# Altium footprint library yusend_power.PCBLIB: 87 footprints (part 1 of 6)
Each footprint in its own frame and in the unit in brackets; x right, y up, seen from the top. Pads: shape width x height; smd on the part's side, far side on the other; paste and mask are expansions set on the pad; w line width, h text height; cw(c..) or ccw(c..) is an arc to the next point about the centre after c.
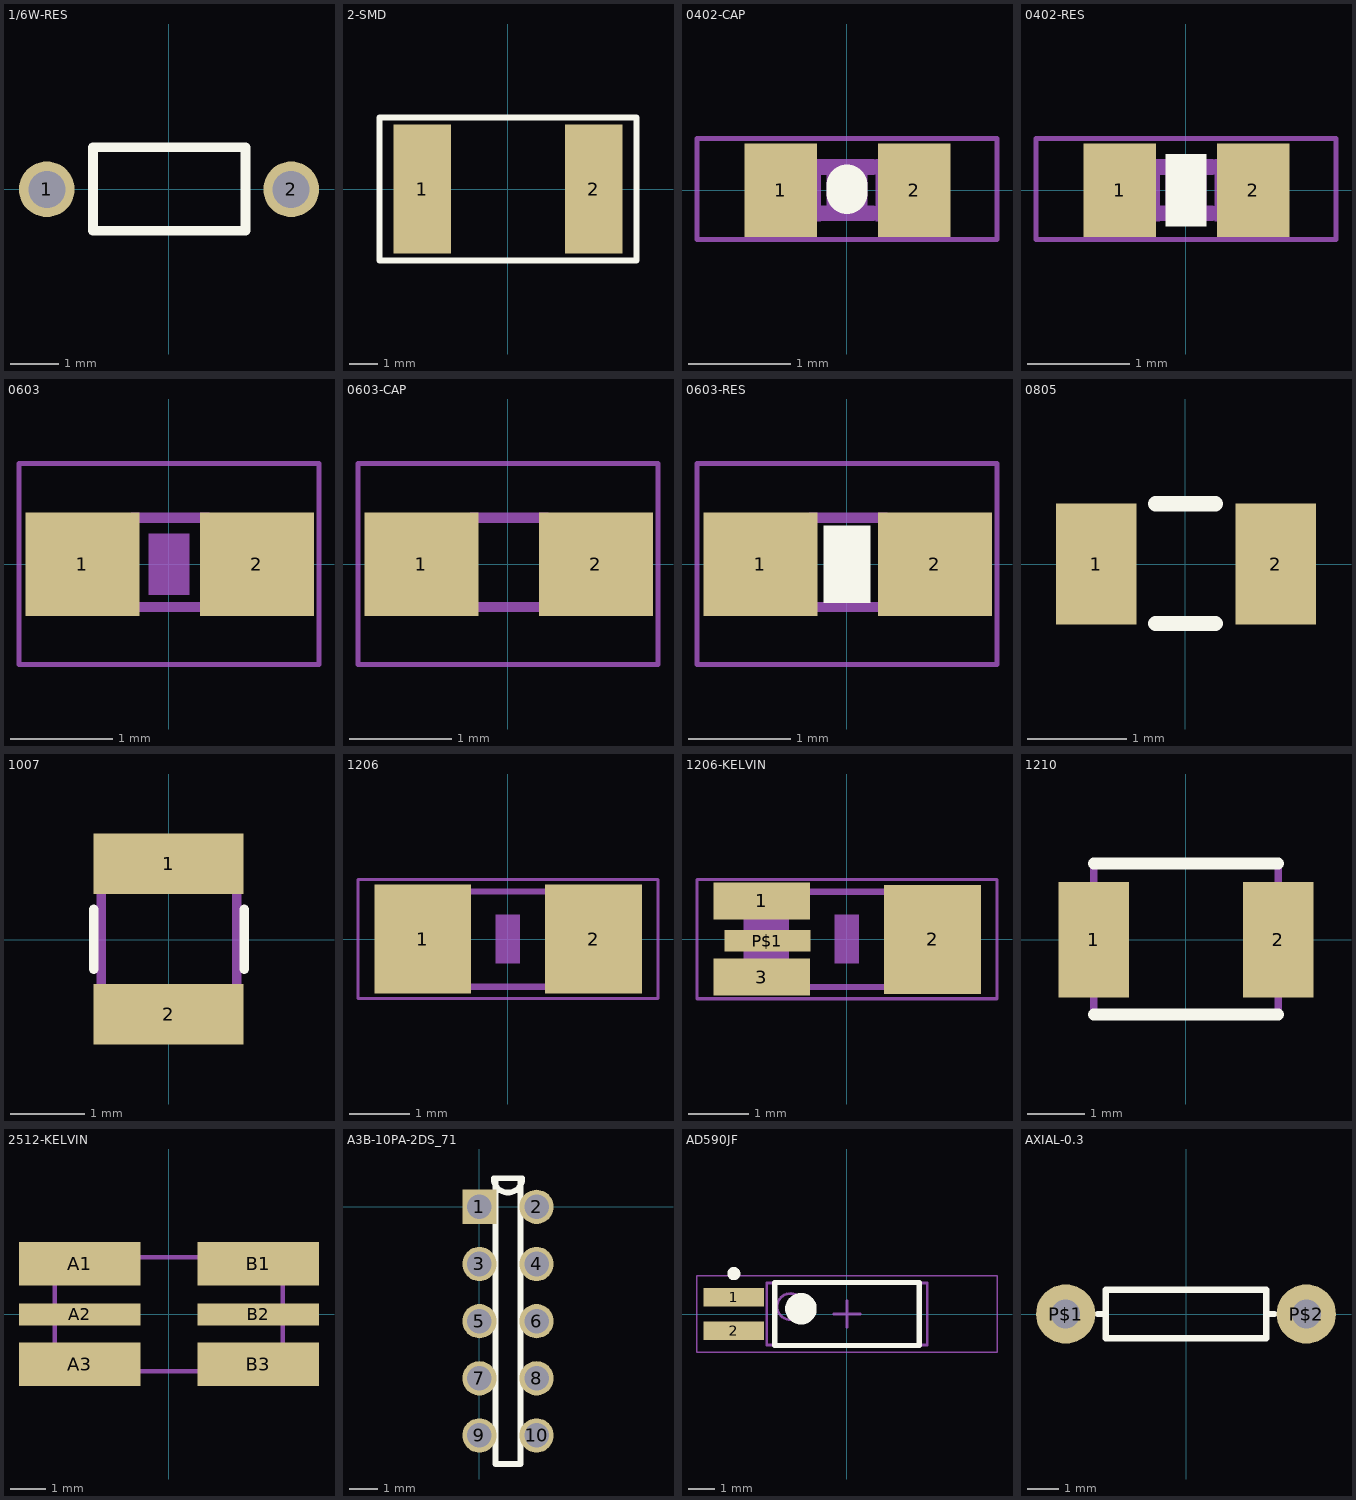
[diagram p0: the footprints below, top view; thin cyan lines are the x and y axes]

## 1/6W-RES [mil]
pads (2):
  round 45 hole 30: 1(-98.43,0) 2(99,0)
Top Overlay:
  lines w8: -61.02,-33.46 62,-33.46 62,34 -61.02,34 -61.02,-33.46

## 2-SMD [mm]
pads (2):
  rect 2x4.5 smd: 1(-3,0) 2(3,0)
Top Overlay:
  lines w0.2: -4.5,-2.5 4.5,-2.5 4.5,2.5 -4.5,2.5 -4.5,0 -4.5,-2.5

## 0402-CAP [mil]
pads (2):
  rect 28x36 smd: 1(-25.59,0) 2(26,0)
Top Overlay:
  lines w16: 0,-1.2 0,2
Mechanical 6:
  rectangle: -7.87,-11.81 8,12
Mechanical 16:
  rectangle: -21.81,-12 -10,12
  rectangle: 11,-12 22,12
  lines w6: -9.65,-8.82 10,-8.82 ; -9.65,9 10,9
Mechanical 27:
  lines w2: -57.99,-19.02 58,-19.02 58,20 -57.99,20 -57.99,-19.02

## 0402-RES [mil]
pads (2):
  rect 28x36 smd: 1(-25.59,0) 2(26,0)
Top Overlay:
  rectangle: -8,-14 8,14
Mechanical 6:
  rectangle: -7.87,-11.81 8,12
Mechanical 16:
  rectangle: -21.81,-12 -10,12
  rectangle: 11,-12 22,12
  lines w6: -9.65,-8.82 10,-8.82 ; -9.65,9 10,9
Mechanical 27:
  lines w2: -57.99,-19.02 58,-19.02 58,20 -57.99,20 -57.99,-19.02

## 0603 [mil]
pads (2):
  rect 44x40 smd: 1(-33.46,0) 2(34,0)
Mechanical 6:
  rectangle: -7.87,-11.81 8,12
Mechanical 16:
  rectangle: -33,-18.5 -13.31,19
  rectangle: 13,-18.5 33,19
  lines w4: -14.02,-16.5 15,-16.5 ; -14.02,18 15,18
Mechanical 27:
  lines w2: -57.99,-38.7 58,-38.7 58,39 -57.99,39 -57.99,-38.7

## 0603-CAP [mil]
pads (2):
  rect 44x40 smd: 1(-33.46,0) 2(34,0)
Mechanical 16:
  rectangle: -33,-18.5 -13.31,19
  rectangle: 13,-18.5 33,19
  lines w4: -14.02,-16.5 15,-16.5 ; -14.02,18 15,18
Mechanical 27:
  lines w2: -57.99,-38.7 58,-38.7 58,39 -57.99,39 -57.99,-38.7

## 0603-RES [mil]
pads (2):
  rect 44x40 smd: 1(-33.46,0) 2(34,0)
Top Overlay:
  rectangle: -9,-15 9,15
Mechanical 6:
  rectangle: -7.87,-11.81 8,12
Mechanical 16:
  rectangle: -33,-18.5 -13.31,19
  rectangle: 13,-18.5 33,19
  lines w4: -14.02,-16.5 15,-16.5 ; -14.02,18 15,18
Mechanical 27:
  lines w2: -57.99,-38.7 58,-38.7 58,39 -57.99,39 -57.99,-38.7

## 0805 [mil]
pads (2):
  rect 32x48 smd: 1(-35.43,0) 2(36,0)
Top Overlay:
  lines w6: -11.81,-23.62 12,-23.62 ; -11.81,24 12,24

## 1007 [mil]
pads (2):
  rect 79x32 smd: 1(0,40) 2(0,-39.37)
Top Overlay:
  lines w5: -39.37,-15.75 -39.37,16 ; 40,-15.75 40,16
Mechanical 16:
  lines w5: -35.43,-49.21 -35.43,50 36,50 36,-49.21 -35.43,-49.21

## 1206 [mil]
pads (2):
  rect 63x71 smd: 1(-55.12,0) 2(56,0)
Mechanical 6:
  rectangle: -7.87,-15.75 8,16
Mechanical 16:
  rectangle: -67,-33.5 -37.47,34
  rectangle: 38,-33.43 67,34
  lines w4: -37.99,-30.98 38,-30.98 ; -37.99,31 38,31
Mechanical 27:
  lines w2: -97.36,-38.7 98,-38.7 98,39 -97.36,39 -97.36,-38.7

## 1206-KELVIN [mil]
pads (4):
  rect 63x24 smd: 1(-55.12,25) 3(-55.12,-24.61)
  rect 63x71 smd: 2(56,0)
  rect 56x14 smd: P$1(-51.57,-0.79)
Mechanical 6:
  rectangle: -7.87,-15.75 8,16
Mechanical 16:
  rectangle: -67,-33.5 -37.47,34
  rectangle: 38,-33.43 67,34
  lines w4: -37.99,-30.98 38,-30.98 ; -37.99,31 38,31
Mechanical 27:
  lines w2: -97.36,-38.7 98,-38.7 98,39 -97.36,39 -97.36,-38.7

## 1210 [mil]
pads (2):
  rect 48x79 smd: 1(-62.99,0) 2(63,0)
Top Overlay:
  lines w8: -62.99,-51.18 63,-51.18 ; -62.99,52 63,52
Mechanical 16:
  lines w5: -62.99,-51.18 63,-51.18 63,52 -62.99,52 -62.99,-51.18

## 2512-KELVIN [mil]
pads (6):
  rect 134x48 smd: A1(-98.43,56) A3(-98.43,-55.12) B1(99,56) B3(99,-55.12)
  rect 134x24 smd: A2(-98.43,0) B2(99,0)
Mechanical 14:
  lines w5: -125.98,-62.99 126,-62.99 126,63 -125.98,63 -125.98,-62.99

## A3B-10PA-2DS_71 [mm]
pads (10):
  rect 1.2x1.2 hole 0.86: 1(0,0)
  round 1.2 hole 0.86: 2(2,0) 3(0,-2) 4(2,-2) 5(0,-4) 6(2,-4) 7(0,-6) 8(2,-6) 9(0,-8) 10(2,-8)
Top Overlay:
  lines w0.2: 0.5,1 ccw(c1,1) 1.5,1 0.565,1 0.565,-9 1.435,-9 1.435,1 0.5,1
3D body: height 4.01, standoff -2.59, extent -0.225,-9.075 7.775,0.925

## AD590JF [mm] "CFP, 2-Leads, Body 2.36x6.10mm (max), Pitch 1.27mm, IPC Medium Density"
height 1.27
pads (2):
  rect 2.3x0.7 smd: 1(-4.3,0.635) 2(-4.3,-0.635)
Top Overlay:
  circle w0.25: c-4.3,1.535 r0.125
  circle w0.6: c-1.75,0.2 r0.3
  lines w0.2: -2.75,-1.2 2.75,-1.2 2.75,1.2 -2.75,1.2 -2.75,-1.2
Mechanical 13:
  circle w0.1: c-2.15,0.28 r0.5
  lines w0.1: -3.05,-1.18 3.05,-1.18 3.05,1.18 -3.05,1.18 -3.05,-1.18
Mechanical 15:
  lines w0.05: -5.7,-1.45 5.7,-1.45 5.7,1.45 -5.7,1.45 -5.7,-1.45
  lines w0.1: -0.5,0 0.5,0 ; 0,-0.5 0,0.5
3D body: height 1.27, standoff 0, extent -3.05,-1.18 3.05,1.18

## AXIAL-0.3 [mil]
pads (2):
  round 74 hole 36: P$1(-150,0) P$2(150,0)
Top Overlay:
  lines w8: -110,0 -100,0 ; 110,0 100,0 ; -100,0 -100,-30 100,-30 100,0 ; -100,0 -100,30 100,30 100,0